# EAGLE library part BLE (library F_ck)
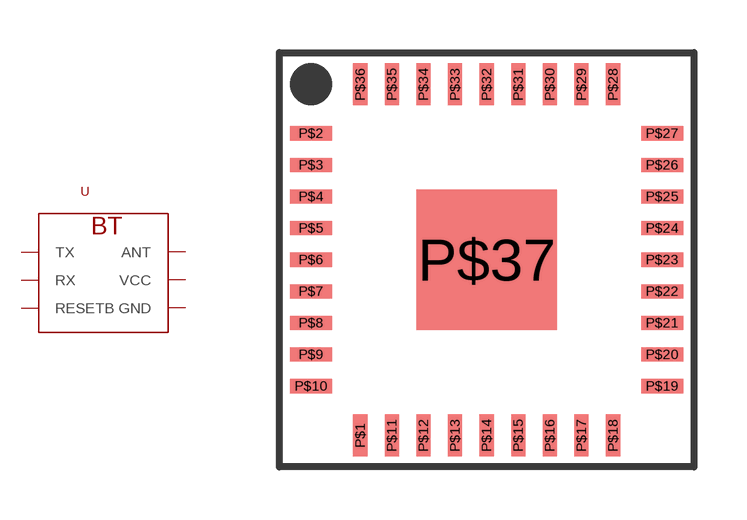
[diagram p2: symbol with the pads of BLE; footprint BLE]

Designator prefix U

## BLERODONG  [BLE]
P$3  GND
P$4  ANT
P$5  GND
P$10  VCC
P$11  GND
P$13  TX
P$17  RX
P$28  RESETB
P$31  GND
P$36  GND

## Footprint BLE (pad centres in mm)
smd 0.4 x 1.2: P$1 -3.6,-5; P$11 -2.7,-5; P$12 -1.8,-5; P$13 -0.9,-5; P$14 0,-5; P$15 0.9,-5; P$16 1.8,-5; P$17 2.7,-5; P$18 3.6,-5; P$28 3.6,5; P$29 2.7,5; P$30 1.8,5; P$31 0.9,5; P$32 0,5; P$33 -0.9,5; P$34 -1.8,5; P$35 -2.7,5; P$36 -3.6,5
smd 1.2 x 0.4: P$2 -5,3.6; P$3 -5,2.7; P$4 -5,1.8; P$5 -5,0.9; P$6 -5,0; P$7 -5,-0.9; P$8 -5,-1.8; P$9 -5,-2.7; P$10 -5,-3.6; P$19 5,-3.6; P$20 5,-2.7; P$21 5,-1.8; P$22 5,-0.9; P$23 5,0; P$24 5,0.9; P$25 5,1.8; P$26 5,2.7; P$27 5,3.6
smd 4 x 4: P$37 0,0